# EAGLE library part ARDUINO-PRO-MINI (library SPCoast)
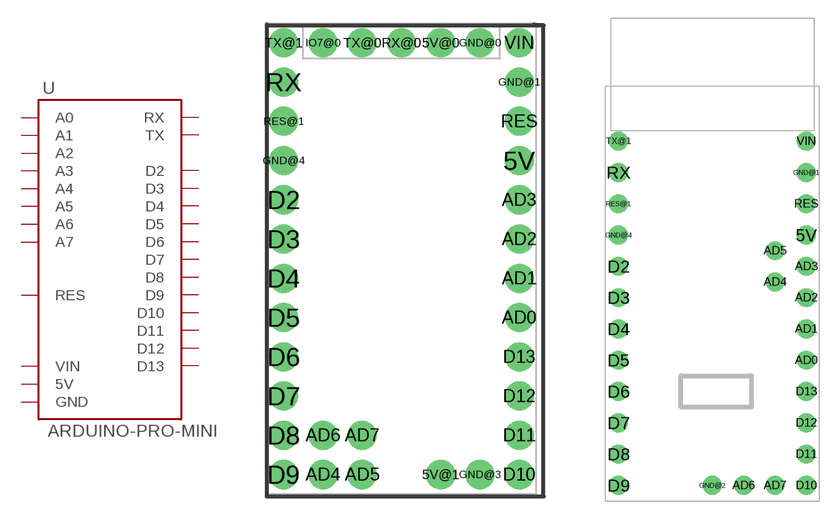
[diagram p6: symbol with the pads of ARDUINO-PRO-MINI; footprints ARDUINO-PRO-MINI, ARDUINO_PRO_MINI_DAVEK]

Designator prefix -

## ARDUINO-PRO-MINISPARKFUN  [ARDUINO-PRO-MINI]
5V  5V
5V@0  5V
5V@1  5V
AD0  A0
AD1  A1
AD2  A2
AD3  A3
AD4  A4
AD5  A5
AD6  A6
AD7  A7
D2  D2
D3  D3
D4  D4
D5  D5
D6  D6
D7  D7
D8  D8
D9  D9
D10  D10
D11  D11
D12  D12
D13  D13
GND@0  GND
GND@1  GND
GND@3  GND
GND@4  GND
IO7@0  D7
RES  RES
RES@1  RES
RX  RX
RX@0  RX
TX@0  TX
TX@1  TX
VIN  VIN

## ARDUINO-PRO-MINIDAVESROBOT  [ARDUINO_PRO_MINI_DAVEK]
5V  5V
AD0  A0
AD1  A1
AD2  A2
AD3  A3
AD4  A4
AD5  A5
AD6  A6
AD7  A7
D2  D2
D3  D3
D4  D4
D5  D5
D6  D6
D7  D7
D8  D8
D9  D9
D10  D10
D11  D11
D12  D12
D13  D13
GND@1  GND
GND@2  GND
GND@4  GND
RES  RES
RES@1  RES
RX  RX
TX@1  TX
VIN  VIN

## Footprint ARDUINO-PRO-MINI (pad centres in mm)
drill 1.016 pad 1.88: 5V 16.51,21.59; 5V@0 11.43,29.21; 5V@1 11.43,1.27; AD0 16.51,11.43; AD1 16.51,13.97; AD2 16.51,16.51; AD3 16.51,19.05; AD4 3.81,1.27; AD5 6.35,1.27; AD6 3.81,3.81; AD7 6.35,3.81; D2 1.27,19.05; D3 1.27,16.51; D4 1.27,13.97; D5 1.27,11.43; D6 1.27,8.89; D7 1.27,6.35; D8 1.27,3.81; D9 1.27,1.27; D10 16.51,1.27; D11 16.51,3.81; D12 16.51,6.35; D13 16.51,8.89; GND@0 13.97,29.21; GND@1 16.51,26.67; GND@3 13.97,1.27; GND@4 1.27,21.59; IO7@0 3.81,29.21; RES 16.51,24.13; RES@1 1.27,24.13; RX 1.27,26.67; RX@0 8.89,29.21; TX@0 6.35,29.21; TX@1 1.27,29.21; VIN 16.51,29.21

## Footprint ARDUINO_PRO_MINI_DAVEK (pad centres in mm)
drill 1.016: 5V 16.51,21.59; AD0 16.51,11.43; AD1 16.51,13.97; AD2 16.51,16.51; AD3 16.51,19.05; AD4 13.97,17.78; AD5 13.97,20.32; AD6 11.43,1.27; AD7 13.97,1.27; D2 1.27,19.05; D3 1.27,16.51; D4 1.27,13.97; D5 1.27,11.43; D6 1.27,8.89; D7 1.27,6.35; D8 1.27,3.81; D9 1.27,1.27; D10 16.51,1.27; D11 16.51,3.81; D12 16.51,6.35; D13 16.51,8.89; GND@1 16.51,26.67; GND@2 8.89,1.27; GND@4 1.27,21.59; RES 16.51,24.13; RES@1 1.27,24.13; RX 1.27,26.67; TX@1 1.27,29.21; VIN 16.51,29.21